# Altium footprint library TE.PcbLib: 22 footprints (part 1 of 2)
Each footprint in its own frame and in the unit in brackets; x right, y up, seen from the top. Pads: shape width x height; smd on the part's side, far side on the other; paste and mask are expansions set on the pad; w line width, h text height; cw(c..) or ccw(c..) is an arc to the next point about the centre after c.
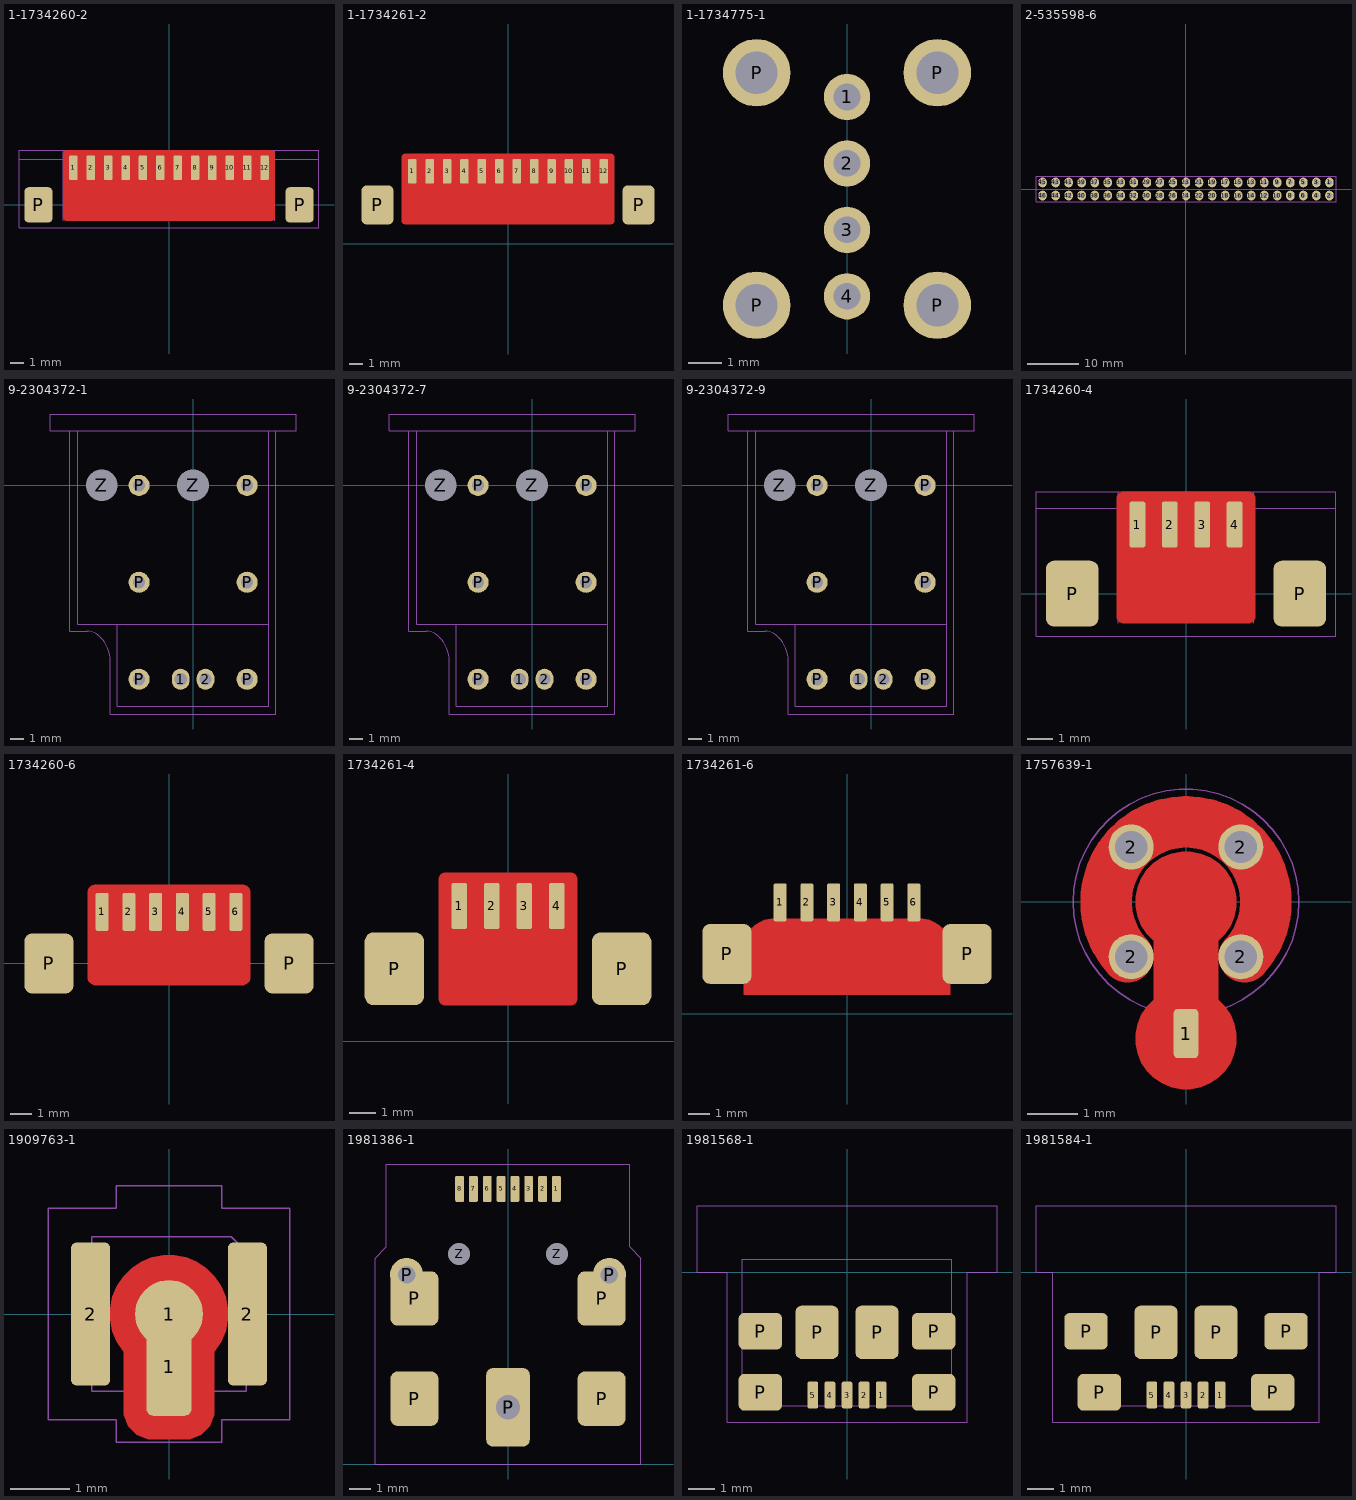
[diagram p0: the footprints below, top view; thin cyan lines are the x and y axes]

## 1-1734260-2 [mil] "High Performance Interconnects (HPI)"
pads (14):
  rrect30% 24x70 smd: 1(-270.67,105) 2(-221.46,105) 3(-172.24,105) 4(-123.03,105) 5(-73.82,105) 6(-24.61,105) 7(24.61,105) 8(73.82,105) 9(123.03,105) 10(172.24,105) 11(221.46,105) 12(270.67,105)
  rrect30% 80x100 smd paste-10: P(-370,0) P(370,0)
Top Layer:
  pour cut-out: -290,155 -291.99,155 -295.66,153.48 -298.48,150.66 -300,146.99 -300,145 -300,-35 -300,-36.99 -298.48,-40.66 -295.66,-43.48 -291.99,-45 -290,-45 290,-45 291.99,-45 295.66,-43.48 298.48,-40.66 300,-36.99 300,-35 300,145 300,146.99 298.48,150.66 295.66,153.48 291.99,155 290,155
Top Component Outline:
  lines w1: -425,130 -300,130 ; -300,-45 -300,155 ; 300,-45 300,155 ; 300,130 425,130 ; -425,-65 -425,155 425,155 425,-65 -425,-65
3D body "TE-1-1734260-2.stp": height 187, standoff -0.01, extent -399.41,-42.84 399.41,122.52

## 1-1734261-2 [mil] "High Performance Interconnects (HPI)"
pads (14):
  rrect30% 24x70 smd: 1(-270.67,205) 2(-221.46,205) 3(-172.24,205) 4(-123.03,205) 5(-73.82,205) 6(-24.61,205) 7(24.61,205) 8(73.82,205) 9(123.03,205) 10(172.24,205) 11(221.46,205) 12(270.67,205)
  rrect30% 90x110 smd paste-10: P(-368.82,110) P(368.82,110)
Top Layer:
  pour cut-out: -290,255 -291.99,255 -295.66,253.48 -298.48,250.66 -300,246.99 -300,245 -300,65 -300,63.01 -298.48,59.34 -295.66,56.52 -291.99,55 -290,55 290,55 291.99,55 295.66,56.52 298.48,59.34 300,63.01 300,65 300,245 300,246.99 298.48,250.66 295.66,253.48 291.99,255 290,255
3D body "c-1-1734261-2-a-3d.stp": height 138.15, standoff 2.32, extent -399.41,50 399.41,235.04

## 1-1734775-1 [mil] "USB Conn.,RCPT.,FLAG,R/A,DIP, TAIL3.30mm"
pads (8):
  round 55 hole 31.5: 1(0,-491.73) 2(0,-570.47) 3(0,-649.21) 4(0,-727.95)
  round 80 hole 50: P(-107.09,-738.58) P(-107.09,-462.99) P(107.09,-738.58) P(107.09,-462.99)
3D body "c-1-1734775-1-b-3d.stp": height 579.37, standoff -147.01, extent -144.1,-759.85 144.1,0

## 2-535598-6 [mil] "46 Pin"
pads (46):
  oval 65x75 hole 36: 1(1100,50) 2(1100,-50) 3(1000,50) 4(1000,-50) 5(900,50) 6(900,-50) 7(800,50) 8(800,-50) 9(700,50) 10(700,-50) 11(600,50) 12(600,-50) 13(500,50) 14(500,-50) 15(400,50) 16(400,-50) 17(300,50) 18(300,-50) 19(200,50) 20(200,-50) 21(100,50) 22(100,-50) 23(0,50) 24(0,-50) 25(-100,50) 26(-100,-50) 27(-200,50) 28(-200,-50) 29(-300,50) 30(-300,-50) 31(-400,50) 32(-400,-50) 33(-500,50) 34(-500,-50) 35(-600,50) 36(-600,-50) 37(-700,50) 38(-700,-50) 39(-800,50) 40(-800,-50) 41(-900,50) 42(-900,-50) 43(-1000,50) 44(-1000,-50) 45(-1100,50) 46(-1100,-50)
Top 3D Body (Mech16):
  lines w1: -1150,-99 -1150,99 1150,99 1150,-99 -1150,-99
3D body "c-2-535598-6-p-3d.stp": height 264.96, standoff -125.04, extent -1150,-99 1150,99

## 9-2304372-1 [mil]
pads (10):
  oval 50x60 hole 35: 1(-35.43,-551.18) 2(35.43,-551.18)
  round 60 hole 35: P(-153.54,-551.18) P(-153.54,-275.59) P(-153.54,0) P(153.54,-551.18) P(153.54,-275.59) P(153.54,0)
  round 85 hole 90 unplated mask+8: Z(-259.84,0) Z(0,0)
Top Component Outline:
  lines w1: -350,155 -350,-415 -301.21,-415 cw(c-301.21,-466.21) -265,-430 -263.54,-431.46 cw(c-332.43,-500.36) -235,-500.36 -235,-650 235,-650 235,155
Top 3D Body (Mech16):
  lines w1: -327.82,155.51 -327.82,-394.49 215,-394.49 ; -215,-394.49 -215,-627.95 215,-627.95 215,155.51 ; -405.82,155.51 -405.82,202.75 293,202.75 293,155.51 -405.82,155.51
Multi-Layer:
  pour cut-out: 0,55 5.42,55 16.04,52.89 26.05,48.74 35.06,42.72 42.72,35.06 48.74,26.05 52.89,16.04 55,5.42 55,0 55,-0.59 55,-6.01 52.89,-16.63 48.74,-26.64 42.72,-35.65 35.06,-43.31 26.05,-49.33 16.04,-53.48 5.42,-55.59 0,-55.59 -5.42,-55.59 -16.04,-53.48 -26.05,-49.33 -35.06,-43.31 -42.72,-35.65 -48.74,-26.64 -52.89,-16.63 -55,-6.01 -55,-0.59 -55,0 -55,5.42 -52.89,16.04 -48.74,26.05 -42.72,35.06 -35.06,42.72 -26.05,48.74 -16.04,52.89 -5.42,55
  pour cut-out: -259.84,55 -254.43,55 -243.8,52.89 -233.79,48.74 -224.78,42.72 -217.12,35.06 -211.1,26.05 -206.96,16.04 -204.84,5.42 -204.84,0 -204.84,-0.59 -204.84,-6.01 -206.96,-16.63 -211.1,-26.64 -217.12,-35.65 -224.78,-43.31 -233.79,-49.33 -243.8,-53.48 -254.43,-55.59 -259.84,-55.59 -265.26,-55.59 -275.89,-53.48 -285.89,-49.33 -294.9,-43.31 -302.56,-35.65 -308.58,-26.64 -312.73,-16.63 -314.84,-6.01 -314.84,-0.59 -314.84,0 -314.84,5.42 -312.73,16.04 -308.58,26.05 -302.56,35.06 -294.9,42.72 -285.89,48.74 -275.89,52.89 -265.26,55
3D body "TE-9-2304372-1.stp": height 531.1, standoff -118.5, extent -405.82,-627.95 293,202.75

## 9-2304372-7 [mil]
pads (10):
  oval 50x60 hole 35: 1(-35.43,-551.18) 2(35.43,-551.18)
  round 60 hole 35: P(-153.54,-551.18) P(-153.54,-275.59) P(-153.54,0) P(153.54,-551.18) P(153.54,-275.59) P(153.54,0)
  round 85 hole 90 unplated mask+8: Z(-259.84,0) Z(0,0)
Top Component Outline:
  lines w1: -350,155 -350,-415 -301.21,-415 cw(c-301.21,-466.21) -265,-430 -263.54,-431.46 cw(c-332.43,-500.36) -235,-500.36 -235,-650 235,-650 235,155
Top 3D Body (Mech16):
  lines w1: -327.82,155.51 -327.82,-394.49 215,-394.49 ; -215,-394.49 -215,-627.95 215,-627.95 215,155.51 ; -405.82,155.51 293,155.51 293,202.75 -405.82,202.75 -405.82,155.51
Multi-Layer:
  pour cut-out: 0,55 5.42,55 16.04,52.89 26.05,48.74 35.06,42.72 42.72,35.06 48.74,26.05 52.89,16.04 55,5.42 55,0 55,-0.59 55,-6.01 52.89,-16.63 48.74,-26.64 42.72,-35.65 35.06,-43.31 26.05,-49.33 16.04,-53.48 5.42,-55.59 0,-55.59 -5.42,-55.59 -16.04,-53.48 -26.05,-49.33 -35.06,-43.31 -42.72,-35.65 -48.74,-26.64 -52.89,-16.63 -55,-6.01 -55,-0.59 -55,0 -55,5.42 -52.89,16.04 -48.74,26.05 -42.72,35.06 -35.06,42.72 -26.05,48.74 -16.04,52.89 -5.42,55
  pour cut-out: -259.84,55 -254.43,55 -243.8,52.89 -233.79,48.74 -224.78,42.72 -217.12,35.06 -211.1,26.05 -206.96,16.04 -204.84,5.42 -204.84,0 -204.84,-0.59 -204.84,-6.01 -206.96,-16.63 -211.1,-26.64 -217.12,-35.65 -224.78,-43.31 -233.79,-49.33 -243.8,-53.48 -254.43,-55.59 -259.84,-55.59 -265.26,-55.59 -275.89,-53.48 -285.89,-49.33 -294.9,-43.31 -302.56,-35.65 -308.58,-26.64 -312.73,-16.63 -314.84,-6.01 -314.84,-0.59 -314.84,0 -314.84,5.42 -312.73,16.04 -308.58,26.05 -302.56,35.06 -294.9,42.72 -285.89,48.74 -275.89,52.89 -265.26,55
3D body "TE-9-2304372-7.stp": height 531.1, standoff -118.5, extent -405.82,-627.95 293,202.75

## 9-2304372-9 [mil]
pads (10):
  oval 50x60 hole 35: 1(-35.43,-551.18) 2(35.43,-551.18)
  round 60 hole 35: P(-153.54,-551.18) P(-153.54,-275.59) P(-153.54,0) P(153.54,-551.18) P(153.54,-275.59) P(153.54,0)
  round 85 hole 90 unplated mask+8: Z(-259.84,0) Z(0,0)
Top Component Outline:
  lines w1: -350,155 -350,-415 -301.21,-415 cw(c-301.21,-466.21) -265,-430 -263.54,-431.46 cw(c-332.43,-500.36) -235,-500.36 -235,-650 235,-650 235,155
Top 3D Body (Mech16):
  lines w1: -327.82,155.51 -327.82,-394.49 215,-394.49 ; -215,-394.49 -215,-627.95 215,-627.95 215,155.51 ; -405.82,155.51 293,155.51 293,202.75 -405.82,202.75 -405.82,155.51
Multi-Layer:
  pour cut-out: -259.84,55 -254.43,55 -243.8,52.89 -233.79,48.74 -224.78,42.72 -217.12,35.06 -211.1,26.05 -206.96,16.04 -204.84,5.42 -204.84,0 -204.84,-0.59 -204.84,-6.01 -206.96,-16.63 -211.1,-26.64 -217.12,-35.65 -224.78,-43.31 -233.79,-49.33 -243.8,-53.48 -254.43,-55.59 -259.84,-55.59 -265.26,-55.59 -275.89,-53.48 -285.89,-49.33 -294.9,-43.31 -302.56,-35.65 -308.58,-26.64 -312.73,-16.63 -314.84,-6.01 -314.84,-0.59 -314.84,0 -314.84,5.42 -312.73,16.04 -308.58,26.05 -302.56,35.06 -294.9,42.72 -285.89,48.74 -275.89,52.89 -265.26,55
  pour cut-out: 0,55 5.42,55 16.04,52.89 26.05,48.74 35.06,42.72 42.72,35.06 48.74,26.05 52.89,16.04 55,5.42 55,0 55,-0.59 55,-6.01 52.89,-16.63 48.74,-26.64 42.72,-35.65 35.06,-43.31 26.05,-49.33 16.04,-53.48 5.42,-55.59 0,-55.59 -5.42,-55.59 -16.04,-53.48 -26.05,-49.33 -35.06,-43.31 -42.72,-35.65 -48.74,-26.64 -52.89,-16.63 -55,-6.01 -55,-0.59 -55,0 -55,5.42 -52.89,16.04 -48.74,26.05 -42.72,35.06 -35.06,42.72 -26.05,48.74 -16.04,52.89 -5.42,55
3D body "TE-9-2304372-9.stp": height 531.1, standoff -118.5, extent -405.82,-627.95 293,202.75

## 1734260-4 [mil] "High Performance Interconnects (HPI)"
pads (6):
  rrect30% 24x70 smd: 1(-73.82,105) 2(-24.61,105) 3(24.61,105) 4(73.82,105)
  rrect30% 80x100 smd paste-10: P(-173.15,0) P(173.15,0)
Top Layer:
  pour cut-out: 105,145 105,146.99 103.48,150.66 100.66,153.48 96.99,155 95,155 -95,155 -96.99,155 -100.66,153.48 -103.48,150.66 -105,146.99 -105,145 -105,-35 -105,-36.99 -103.48,-40.66 -100.66,-43.48 -96.99,-45 -95,-45 95,-45 96.99,-45 100.66,-43.48 103.48,-40.66 105,-36.99 105,-35
Top Component Outline:
  lines w1: -228.15,130 -103.15,130 ; -103.15,-45 -103.15,155 ; 103.15,-45 103.15,155 ; 103.15,130 228.15,130 ; -228.15,-65 -228.15,155 228.15,155 228.15,-65 -228.15,-65
3D body "TE-1734260-4.stp": height 187, standoff -0.01, extent -202.56,-42.84 202.56,122.52

## 1734260-6 [mil]
pads (8):
  rrect30% 24x70 smd: 1(-123.03,95) 2(-73.82,95) 3(-24.61,95) 4(24.61,95) 5(73.82,95) 6(123.03,95)
  rrect30% 90x110 smd paste-10: P(-221.18,0) P(221.18,0)
Top Layer:
  pour cut-out: -135,145 -137.98,145 -143.5,142.72 -147.72,138.5 -150,132.98 -150,130 -150,-25 -150,-27.98 -147.72,-33.5 -143.5,-37.72 -137.98,-40 -135,-40 135,-40 137.98,-40 143.5,-37.72 147.72,-33.5 150,-27.98 150,-25 150,130 150,132.98 147.72,138.5 143.5,142.72 137.98,145 135,145
3D body "TE-3-1734260-6.stp": height 186, standoff -1.01, extent -251.77,-42.83 251.77,122.52

## 1734261-4 [mil]
pads (6):
  rrect30% 24x70 smd: 1(-73.82,205) 2(-24.61,205) 3(24.61,205) 4(73.82,205)
  rrect30% 90x110 smd paste-10: P(-171.97,110) P(171.97,110)
Top Layer:
  pour cut-out: 105,245 105,246.99 103.48,250.66 100.66,253.48 96.99,255 95,255 -95,255 -96.99,255 -100.66,253.48 -103.48,250.66 -105,246.99 -105,245 -105,65 -105,63.01 -103.48,59.34 -100.66,56.52 -96.99,55 -95,55 95,55 96.99,55 100.66,56.52 103.48,59.34 105,63.01 105,65
3D body "TE-1734261-4.stp": height 135.15, standoff -0.68, extent -202.56,50 202.56,235.04

## 1734261-6 [mil]
pads (8):
  rrect30% 24x70 smd: 1(-123.03,205) 2(-73.82,205) 3(-24.61,205) 4(24.61,205) 5(73.82,205) 6(123.03,205)
  rrect30% 90x110 smd paste-10: P(-221.18,110) P(221.18,110)
Top Layer:
  pour cut-out: -190,35 -190,120 -190,125.42 -187.89,136.04 -183.74,146.05 -177.72,155.06 -170.06,162.72 -161.05,168.74 -151.04,172.89 -140.42,175 -135,175 135,175 140.42,175 151.04,172.89 161.05,168.74 170.06,162.72 177.72,155.06 183.74,146.05 187.89,136.04 190,125.42 190,120 190,35
3D body "c-1734261-6-a-3d.stp": height 135.15, standoff -0.68, extent -251.77,50 251.78,235.04

## 1757639-1 [mil]
pads (5):
  rrect30% 19x38 smd paste-1 mask+2: 1(0,-102)
  round 35 / inner round 35 / far side round 50 hole 25 mask+2: 2(-42.5,-42.5) 2(-42.5,42.5) 2(42.5,-42.5) 2(42.5,42.5)
Top Layer:
  pour cut-out: -39,0 -39,3.84 -37.5,11.38 -34.56,18.47 -30.29,24.86 -24.86,30.29 -18.47,34.56 -11.38,37.5 -3.84,39 0,39 3.84,39 11.38,37.5 18.47,34.56 24.86,30.29 30.29,24.86 34.56,18.47 37.5,11.38 39,3.84 39,0 39,-3.84 37.5,-11.38 34.56,-18.47 30.29,-24.86 24.86,-30.29 18.47,-34.56 11.38,-37.5 3.84,-39 0,-39 -3.84,-39 -11.38,-37.5 -18.47,-34.56 -24.86,-30.29 -30.29,-24.86 -34.56,-18.47 -37.5,-11.38 -39,-3.84
  pour cut-out: -39,-106 -39,-102.16 -37.5,-94.62 -34.56,-87.53 -30.29,-81.14 -24.86,-75.71 -18.47,-71.44 -11.38,-68.5 -3.84,-67 0,-67 3.84,-67 11.38,-68.5 18.47,-71.44 24.86,-75.71 30.29,-81.14 34.56,-87.53 37.5,-94.62 39,-102.16 39,-106 39,-109.84 37.5,-117.38 34.56,-124.47 30.29,-130.86 24.86,-136.29 18.47,-140.56 11.38,-143.5 3.84,-145 0,-145 -3.84,-145 -11.38,-143.5 -18.47,-140.56 -24.86,-136.29 -30.29,-130.86 -34.56,-124.47 -37.5,-117.38 -39,-109.84
  pour cut-out: -25,-25 -25,-80 25,-80 25,-25
  lines w40: -45.34,-42.28 cw(c0,0) 45.34,-42.28
Top Solder:
  region: 0,85 -8.37,85 -24.79,81.73 -40.26,75.33 -54.18,66.02 -66.02,54.18 -75.33,40.26 -81.73,24.79 -85,8.37 -85,0 -85,-8.37 -81.73,-24.79 -75.33,-40.26 -66.02,-54.18 -54.18,-66.02 -40.26,-75.33 -24.79,-81.73 -8.37,-85 0,-85 8.37,-85 24.79,-81.73 40.26,-75.33 54.18,-66.02 66.02,-54.18 75.33,-40.26 81.73,-24.79 85,-8.37 85,0 85,8.37 81.73,24.79 75.33,40.26 66.02,54.18 54.18,66.02 40.26,75.33 24.79,81.73 8.37,85
Top 3D Body (Mech16):
  circle w1: c0,0 r87.5
  circle w1: c0,0 r37.5
3D body "c-1757639-1-a-3d.stp": height 114, standoff -49, extent -78,-113 78,78

## 1909763-1 [mil]
pads (4):
  rrect30% 30x65 smd paste-1 mask+2: 1(0,-35)
  round 45 smd paste-8 mask+2: 1(0,0)
  rrect30% 26x95 smd paste-1 mask+2: 2(-52,0) 2(52,0)
Top Layer:
  pour cut-out: -39,0 -39,3.84 -37.5,11.38 -34.56,18.47 -30.29,24.86 -24.86,30.29 -18.47,34.56 -11.38,37.5 -3.84,39 0,39 3.84,39 11.38,37.5 18.47,34.56 24.86,30.29 30.29,24.86 34.56,18.47 37.5,11.38 39,3.84 39,0 39,-3.84 37.5,-11.38 34.56,-18.47 30.29,-24.86 24.86,-30.29 18.47,-34.56 11.38,-37.5 3.84,-39 0,-39 -3.84,-39 -11.38,-37.5 -18.47,-34.56 -24.86,-30.29 -30.29,-24.86 -34.56,-18.47 -37.5,-11.38 -39,-3.84
  pour cut-out: -30,-20 -30,-63 -30,-66.98 -26.96,-74.33 -21.33,-79.96 -13.98,-83 -10,-83 10,-83 13.98,-83 21.33,-79.96 26.96,-74.33 30,-66.98 30,-63 30,-20
Top Component Outline:
  lines w1: -80,-70 -80,70 -35,70 -35,85 35,85 35,70 80,70 80,-70 35,-70 35,-85 -35,-85 -35,-70 -80,-70
Top 3D Body (Mech16):
  circle w1: c0,0 r19.68
  lines w1: -41.34,-41.34 -59.06,-41.34 -59.06,41.34 -41.34,41.34 ; -9.84,-16.94 -9.84,-59.06 9.84,-59.06 9.84,-16.94 ; 41.34,-41.34 59.06,-41.34 59.06,41.34 41.34,41.34 ; -51.18,-51.18 51.18,-51.18 51.18,41.34 41.34,51.18 -51.18,51.18 -51.18,-51.18
3D body "SW3dPS-U.FL-R-SMT-1.STEP": height 49.21, standoff -0.39, extent -59.05,-61.02 59.06,61.03

## 1981386-1 [mm]
pads (18):
  rrect30% 0.4x1.2 smd mask+0.051: 1(2.222,12.633) 2(1.587,12.633) 3(0.953,12.633) 4(0.318,12.633) 5(-0.318,12.633) 6(-0.953,12.633) 7(-1.587,12.633) 8(-2.222,12.633)
  round 1.524 hole 0.8 mask+0.051: P(-4.655,8.7) P(4.655,8.7)
  rrect30% 2.2x2.5 smd mask+0.051: P(-4.3,3) P(-4.3,7.6) P(4.3,3) P(4.3,7.6)
  rrect30% 2x3.6 smd mask+0.051: P(0,2.6)
  round 1.651 hole 1.118: P(0,2.6)
  round 0.737 hole 1.016 unplated mask+0.203: Z(-2.25,9.65) Z(2.25,9.65)
Top Component Outline:
  lines w0.025: -6.096,0 6.096,0 6.096,9.458 5.588,9.966 5.588,13.776 -5.588,13.776 -5.588,9.966 -6.096,9.458 -6.096,0
Multi-Layer:
  pour cut-out: -2.25,10.412 -2.325,10.412 -2.472,10.383 -2.611,10.325 -2.736,10.242 -2.842,10.136 -2.925,10.011 -2.983,9.872 -3.012,9.725 -3.012,9.65 -3.012,9.575 -2.983,9.428 -2.925,9.289 -2.842,9.164 -2.736,9.058 -2.611,8.975 -2.472,8.917 -2.325,8.888 -2.25,8.888 -2.175,8.888 -2.028,8.917 -1.889,8.975 -1.764,9.058 -1.658,9.164 -1.575,9.289 -1.517,9.428 -1.488,9.575 -1.488,9.65 -1.488,9.725 -1.517,9.872 -1.575,10.011 -1.658,10.136 -1.764,10.242 -1.889,10.325 -2.028,10.383 -2.175,10.412
  pour cut-out: 2.25,10.412 2.175,10.412 2.028,10.383 1.889,10.325 1.764,10.242 1.658,10.136 1.575,10.011 1.517,9.872 1.488,9.725 1.488,9.65 1.488,9.575 1.517,9.428 1.575,9.289 1.658,9.164 1.764,9.058 1.889,8.975 2.028,8.917 2.175,8.888 2.25,8.888 2.325,8.888 2.472,8.917 2.611,8.975 2.736,9.058 2.842,9.164 2.925,9.289 2.983,9.428 3.012,9.575 3.012,9.65 3.012,9.725 2.983,9.872 2.925,10.011 2.842,10.136 2.736,10.242 2.611,10.325 2.472,10.383 2.325,10.412
3D body "TE-1981386-1.stp": height 7.73, standoff -1.4, extent -4.905,-1.978 4.905,13.022

## 1981568-1 [mil] "REC TYPE B ASSY (Au) MICRO USB"
pads (11):
  rrect30% 16x40 smd: 1(51.18,-184) 2(25.59,-184) 3(0,-184) 4(-25.59,-184) 5(-51.18,-184)
  rrect30% 65x55 smd paste-10: P(-130,-180) P(-130,-88.27) P(130,-180) P(130,-88.27)
  rrect30% 65x80 smd paste-10: P(-45,-90) P(45,-90)
Top Component Outline:
  lines w1: -225,0 -225,100 225,100 225,0 180,0 180,-225 -180,-225 -180,0 -225,0
Top 3D Body (Mech16):
  lines w1: -157.48,-200.47 157.48,-200.47 157.48,20 -157.48,20 -157.48,-200.47
3D body "c-1981568-1-g-3d.stp": height 109.63, standoff -11.63, extent -157.48,-200.47 157.48,20

## 1981584-1 [mil]
pads (11):
  rrect30% 16x40 smd: 1(51.18,-184) 2(25.59,-184) 3(0,-184) 4(-25.59,-184) 5(-51.18,-184)
  rrect30% 65x55 smd paste-10: P(-150,-88.27) P(-130,-180) P(130,-180) P(150,-88.27)
  rrect30% 65x80 smd paste-10: P(-45,-90) P(45,-90)
Top Component Outline:
  lines w1: -225,0 -225,100 225,100 225,0 200,0 200,-225 -200,-225 -200,0 -225,0
Top 3D Body (Mech16):
  lines w1: -157.48,-200.47 157.48,-200.47
3D body "c-1981584-1-f-3d.stp": height 109.04, standoff -11.04, extent -173.23,-200.47 173.23,20